# EAGLE library part MX1508 (library IC & Transistor)
MX1508 Dual Channel DC Motor Driver Created by: Wai Weng
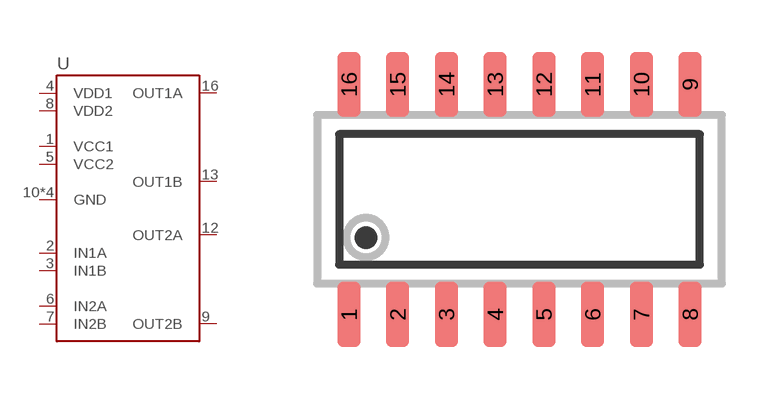
[diagram p94: symbol with the pads of SOIC-16N; footprint SOIC-16N]

Designator prefix U

## MX1508 (CYTRON-PC: S-IC-MX1508-SO16; DESC: S Dual Motor Driver MX1508 SO16; MF: Sinotech Mixic Electronics; MPN: MX1508; VALUE: 2 - 9.6V)  [SOIC-16N]
1  VCC1
2  IN1A
3  IN1B
4  VDD1
5  VCC2
6  IN2A
7  IN2B
8  VDD2
9  OUT2B
10  GND
11  GND
12  OUT2A
13  OUT1B
14  GND
15  GND
16  OUT1A

## Footprint SOIC-16N (pad centres in mm)
Small Outline Integrated Circuit (SOIC) Narrow (JEDEC) SOIC Package Size: 9.90 x 3.90mm / 10.55 x 4.4mm Lead Pitch: 1.27mm Created by: OoiBP
smd 0.6 x 1.7: 1 -4.445,-3; 2 -3.175,-3; 3 -1.905,-3; 4 -0.635,-3; 5 0.635,-3; 6 1.905,-3; 7 3.175,-3; 8 4.445,-3; 9 4.445,3; 10 3.175,3; 11 1.905,3; 12 0.635,3; 13 -0.635,3; 14 -1.905,3; 15 -3.175,3; 16 -4.445,3